# Altium footprint library Connector.PcbLib: 116 footprints (part 1 of 8)
Each footprint in its own frame and in the unit in brackets; x right, y up, seen from the top. Pads: shape width x height; smd on the part's side, far side on the other; paste and mask are expansions set on the pad; w line width, h text height; cw(c..) or ccw(c..) is an arc to the next point about the centre after c.
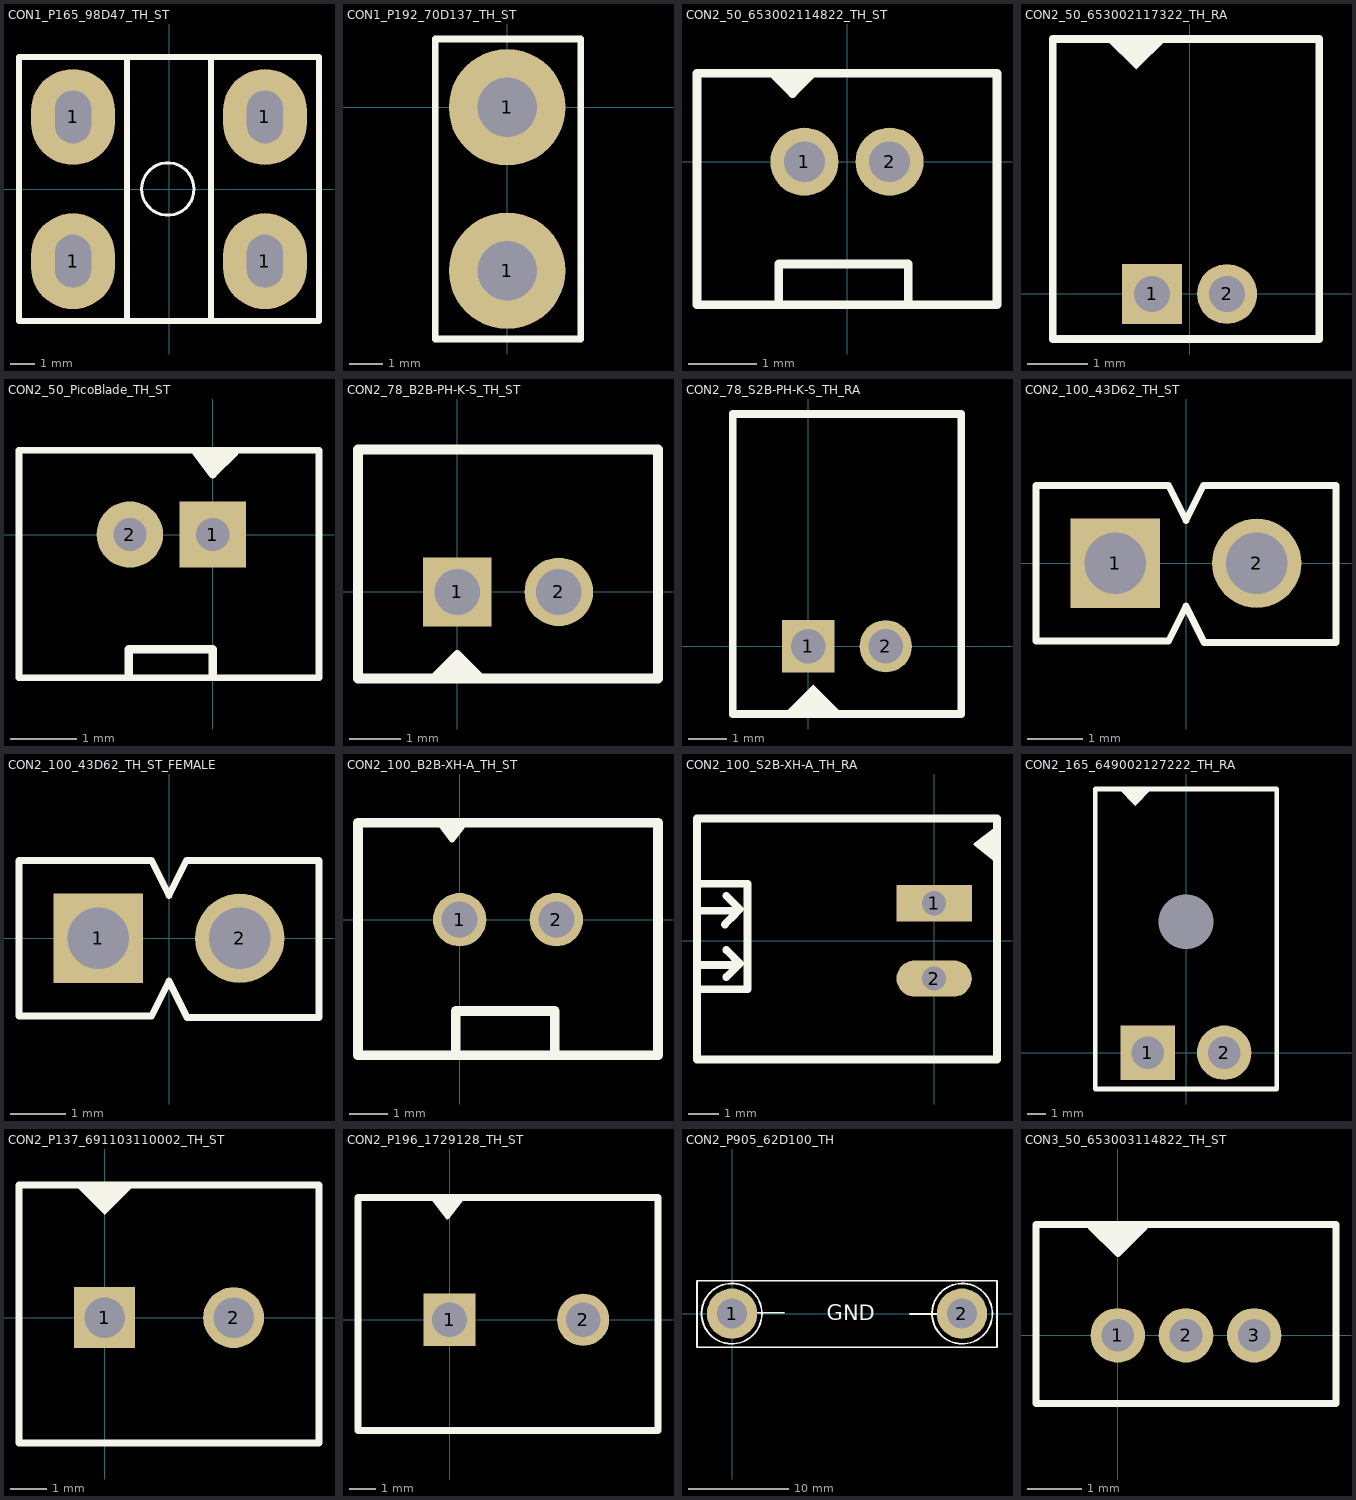
[diagram p0: the footprints below, top view; thin cyan lines are the x and y axes]

## CON1_P165_98D47_TH_ST [mm] "Screw Terminal"
height 10.5
pads (4):
  oval 3.5x4 hole 1.5 slot 2.2 at 90 deg: 1(-4,-3.006) 1(-4,3.006) 1(4,-3.006) 1(4,3.006)
Top Overlay:
  circle w0.127: c-0.049,0 r1.092
  lines w0.254: -1.75,-5.5 -1.75,5.506 ; 1.75,-5.494 1.75,5.506 ; -6.25,-5.494 6.25,-5.494 6.25,5.506 -6.25,5.506 -6.25,-5.494
3D body "User Library-Keystone_7693.STEP": height 10.66, standoff -2.64, extent -4.611,-4.004 4.514,3.996

## CON1_P192_70D137_TH_ST [mm] "SOLDER TABS"
height 7.9
pads (2):
  round 3.5 hole 1.778: 1(0,-4.9) 1(0,0)
Top Overlay:
  lines w0.2: -2.159,-6.95 2.21,-6.95 2.21,2.05 -2.159,2.05 -2.159,-6.95
3D body "77880.stp": height 10.48, standoff -3.54, extent -1.618,-6.312 1.468,1.612

## CON2_50_653002114822_TH_ST [mm] "WR-WTB 1.25 mm Male Vertical Shrouded Header"
height 4.2
pads (2):
  round 1 hole 0.6: 1(-0.625,0) 2(0.625,0)
Top Overlay:
  region: -1.1,1.3 -0.5,1.3 -0.8,1
  lines w0.127: -1.1,1.3 -0.8,1 ; -1,-2.1 -1,-1.5 0.9,-1.5 0.9,-2.1 ; -0.5,1.3 -0.8,1 ; -0.8,1 -0.8,1 ; -2.2,-2.1 2.2,-2.1 2.2,1.3 0.3,1.3 -2.2,1.3 -2.2,-2.1
3D body "653002114822 (rev1).stp": height 4.21, standoff -2.29, extent -2.125,-2 2.125,1.2

## CON2_50_653002117322_TH_RA [mm] "Wurth Connector"
height 3.5
pads (2):
  rect 1x1 hole 0.6: 1(-0.625,0)
  round 1 hole 0.6: 2(0.625,0)
Top Overlay:
  region: -0.381,4.25 -0.889,3.742 -1.397,4.25
  lines w0.127: -1.397,4.25 -1.329,4.25 ; -2.277,-0.75 -2.277,0.275 -2.277,4.25 2.159,4.25 2.159,-0.75 -2.277,-0.75
3D body "653002113322 (rev1).stp": height 3.63, standoff 0.43, extent -2.15,0.95 2.1,4.9
3D body "653002117322 (rev1).stp": height 3.65, standoff -2.14, extent -2.15,-0.45 2.1,4.25

## CON2_50_PicoBlade_TH_ST [mm]
pads (2):
  rect 1x1 / inner round 1 / far side rect 1x1 hole 0.5 mask+0.076: 1(0,0)
  round 1 hole 0.5 mask+0.076: 2(-1.25,0)
Top Overlay:
  region: -0.223,1.245 0.305,1.245 0.007,0.946
  lines w0.1: 1.6,1.245 1.6,-2.159 -2.921,-2.159 -2.921,1.27 1.6,1.27
  lines w0.127: -1.27,-2.127 -1.27,-1.727 0,-1.727 0,-2.127 ; -0.254,1.245 -0.004,0.911 0.33,1.245
3D body "picoblade 2way.step": height 4.2, standoff -2.2, extent -2.75,-2.025 1.5,1.175

## CON2_78_B2B-PH-K-S_TH_ST [mm] "CONNECTOR"
height 6
pads (2):
  rect 1.35x1.35 hole 0.9: 1(0,0)
  round 1.35 hole 0.9: 2(2,0)
Top Overlay:
  region: -0.5,-1.7 0,-1.2 0.5,-1.7
  lines w0.127: -0.5,-1.7 0,-1.2 0.5,-1.7
  lines w0.2: -1.95,-1.7 3.95,-1.7 3.95,2.8 -1.95,2.8 -1.95,-1.7
3D body "User Library-B2B-PH-K-S(LF)(SN).step": height 6.01, standoff -3.39, extent -1.95,-1.7 3.95,2.8

## CON2_78_S2B-PH-K-S_TH_RA [mm] "CONN HEADER R/A"
height 4.8
pads (2):
  rect 1.35x1.35 hole 0.9: 1(0,0)
  round 1.35 hole 0.9: 2(2,0)
Top Overlay:
  region: -0.635,-1.75 0.127,-0.988 0.889,-1.75
  lines w0.2: -1.95,-1.75 -1.95,6 3.95,6 3.95,-1.75 -1.95,-1.75
3D body "PHR-2.STEP": height 5.07, standoff 0.58, extent -1.9,1.65 3.9,8.5
3D body "S2B-PH-K-S.STEP": height 5.02, standoff -3.18, extent -2,-1.2 3.9,6.4

## CON2_100_43D62_TH_ST [mm] "Berg Strip"
height 11.5
pads (2):
  rect 1.6x1.6 hole 1.1: 1(-1.27,0)
  round 1.6 hole 1.1: 2(1.27,0)
Top Overlay:
  lines w0.127: -2.692,-1.397 -0.314,-1.397 0,-0.77 0.326,-1.422 2.692,-1.422 2.692,1.397 0.313,1.397 0,0.77 -0.314,1.397 -2.692,1.397 -2.692,-1.397
3D body "STEP-61300211121-rev1.stp": height 8.54, standoff -3, extent -2.54,-1.27 2.54,1.27

## CON2_100_43D62_TH_ST_FEMALE [mm] "Female Berg Strip"
height 11.5
pads (2):
  rect 1.6x1.6 hole 1.1: 1(-1.27,0)
  round 1.6 hole 1.1: 2(1.27,0)
Top Overlay:
  lines w0.127: -2.692,-1.397 -2.692,1.397 -0.314,1.397 0,0.77 0.313,1.397 2.692,1.397 2.692,-1.422 0.326,-1.422 0,-0.77 -0.314,-1.397 -2.692,-1.397
3D body "STEP-61300211121-rev1.stp": height 8.54, standoff -3, extent -2.54,-1.27 2.54,1.27
3D body: height 10, standoff 0.1, extent -2.54,-1.27 2.54,1.27

## CON2_100_B2B-XH-A_TH_ST [mm] "Connector Header"
height 7
pads (2):
  round 1.4 hole 0.94: 1(0,0) 2(2.54,0)
Top Overlay:
  region: 0.051,2.464 0.051,2.388 -0.203,2.134 -0.432,2.362 -0.432,2.438
  lines w0.127: -0.508,2.489 -0.203,2.083 0.074,2.44
  lines w0.254: -0.1,-3.556 -0.1,-2.4 2.5,-2.4 2.5,-3.429 ; -2.667,-3.556 5.207,-3.556 5.207,2.54 -2.667,2.54 -2.667,-3.556
3D body "JST 2pin.stp": height 6.85, standoff -3.45, extent -2.415,-3.5 5.015,2.228
3D body "XHP-2.STEP": height 8.44, standoff 0.69, extent -2.35,-3.16 4.95,2.54

## CON2_100_S2B-XH-A_TH_RA [mm] "Connector Header"
height 6.1
pads (2):
  rect 2.5x1.2 hole 0.8: 1(0,1.25)
  oval 2.5x1.2 hole 0.8: 2(0,-1.25)
Top Overlay:
  region: 2.007,3.683 2.007,2.769 1.854,2.769 1.397,3.226
  lines w0.127: 2.033,2.694 1.373,3.208 2.084,3.741
  lines w0.254: -7.8,-1.6 -6.2,-1.6 -6.2,1.9 -7.8,1.9 ; -7.8,-0.8 -6.7,-0.8 ; -7.8,1 -6.7,1 ; -6.946,0.546 -6.6,0.893 -6.6,0.9 -6.45,1.05 -6.9,1.5 ; -6.9,-1.2 -6.45,-0.75 -6.9,-0.3 ; -7.874,-3.937 -7.874,4.064 2.085,4.064 2.085,-3.937 -7.874,-3.937
3D body "XHP-2.STEP": height 5.7, standoff 0, extent -8.57,-3.55 -0.82,3.75
3D body "User Library-JST-XH-2_5mm-2.step": height 5.91, standoff -3.39, extent -7.3,-3.65 0.34,3.85

## CON2_165_649002127222_TH_RA [mm] "Male Single Row Angled Header"
height 5.8
pads (3):
  rect 3x3 / inner round 1.95 / far side rect 1.95x1.95 hole 1.8: 1(-2.1,0)
  round 3 hole 1.8: 2(2.1,0)
  round 0 hole 3 unplated: ""(0,7.2)
Top Overlay:
  region: -3.683,14.5 -3.683,14.478 -2.794,13.589 -1.905,14.478 -1.905,14.5
  lines w0.254: -5,-2 -5,-0.302 -5,14.5 5,14.5 5,-2 0.218,-2 -5,-2
3D body "649002013322 (rev1).stp": height 9.75, standoff -0.65, extent -4.7,4.95 4.9,24.55
3D body "649002127222 (rev1).stp": height 7.21, standoff -3.49, extent -4.8,-0.5 4.8,13.75

## CON2_P137_691103110002_TH_ST [mm] "Connector terminal"
height 8.4
pads (2):
  rect 1.65x1.65 hole 1.1: 1(0,0)
  round 1.65 hole 1.1: 2(3.5,0)
Top Overlay:
  region: -0.762,3.556 0,2.794 0.762,3.556 0.762,3.6
  lines w0.2: -2.324,-3.404 5.817,-3.404 5.817,3.6 -2.324,3.6 -2.324,-3.404
3D body "Download_STP_691103110002 (rev1).stp": height 8.41, standoff -3.79, extent -2.324,-3.297 5.676,3.703

## CON2_P196_1729128_TH_ST [mm] "Terminal Block"
height 10
pads (2):
  rect 1.95x1.95 / inner round 1.95 / far side rect 1.95x1.95 hole 1.3: 1(0,0)
  round 1.95 hole 1.3: 2(5,0)
Top Overlay:
  region: -0.584,4.521 0.381,4.521 0.381,4.318 -0.076,3.861
  lines w0.127: -0.635,4.547 -0.082,3.81 0.5,4.558
  lines w0.254: -3.429,-4.14 0.178,-4.14 7.8,-4.14 7.8,4.572 -3.429,4.572 -3.429,0.227 -3.429,-4.14
3D body "1729018.stp": height 10.51, standoff -2.99, extent -3.126,-3.832 7.444,4.318

## CON2_P905_62D100_TH [mm] "NA"
pads (2):
  round 5 hole 3: 1(0,0) 2(22.86,0)
Top Overlay:
  circle w0.178: c-0.025,0 r3
  circle w0.178: c22.885,0 r3
  lines w0.178: 1.346,0.076 5.156,0.076 ; 17.704,-0.051 21.514,-0.051 ; -3.48,-3.353 -3.48,3.277 26.34,3.277 26.34,-3.353 -3.48,-3.353
  text "GND" at 9.398,-0.66 h1.52
3D body: height 4.57, standoff 3.05, extent -0.762,-0.747 0.754,0.77
3D body: height 4.57, standoff 3.05, extent 22.112,-0.762 23.628,0.755
3D body: height 3.81, standoff -2.54, extent 22.111,-0.762 23.629,0.759
3D body: height 3.81, standoff -2.54, extent -0.762,-0.749 0.756,0.772
3D body: height 4.57, standoff 3.05, extent -1.07,-0.762 23.93,0.756

## CON3_50_653003114822_TH_ST [mm] "Connector Header"
height 4.2
pads (3):
  round 1 hole 0.6: 1(0,0) 2(1.25,0) 3(2.5,0)
Top Overlay:
  region: -0.5,2 0,1.5 0.5,2
  lines w0.127: -0.5,2 0,1.5 0.5,2 ; -1.5,-1.25 4,-1.25 4,2.032 -1.5,2.032 -1.5,-1.25
3D body "653003114822 (rev1).stp": height 4.26, standoff -2.24, extent -1.5,-1.3 4,1.9
3D body "653003113322 (rev1).stp": height 4.51, standoff 0.57, extent -1.45,-1.1 4.05,2.1